# Altium schematic symbol library Misc1.SchLib: 11 symbols
Pins are listed as number, name and electrical type; pins without a type are passive.

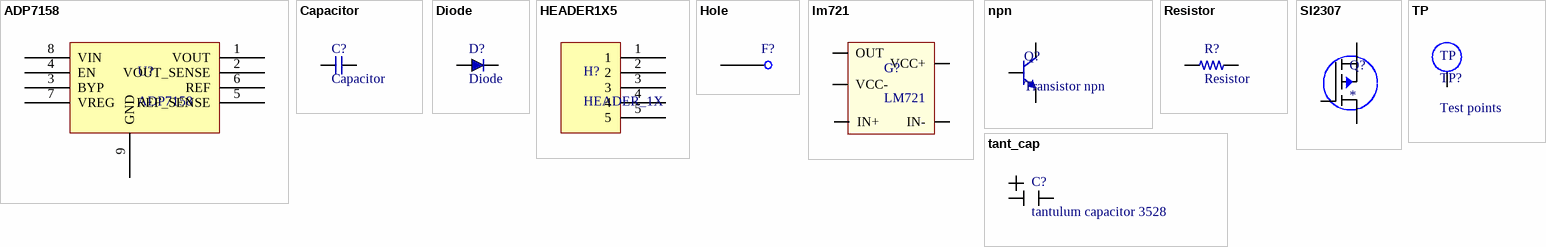
[diagram p0: symbols ADP7158 to TP]

## ADP7158
designator U?
3.3 V Regulator
pins: 1 VOUT, 2 VOUT_SENSE, 3 BYP, 4 EN, 5 REF_SENSE, 6 REF, 7 VREG, 8 VIN, 9 GND

## Capacitor
designator C?
pins: 1, 2

## Diode
designator D?
pins: 1 A "Anode", 2 K "Cathode"

## HEADER1X5
designator H?, comment HEADER_1X
footprint CONNECTOR
pins: 1, 2, 3, 4, 5

## Hole
designator F?  (value not drawn)
footprint HOLE
pins: 1

## lm721
designator G?, comment LM721
footprint lm721
pins: 1 OUT, 2 VCC-, 3 IN+, 4 IN-, 5 VCC+

## npn
designator Q?, comment Transistor npn
pins: 1 E "Emitter", 2 B "Base", 3 C "Collector"

## Resistor
designator R?
footprint RESISTOR_1608
pins: 1, 2

## SI2307
designator Q?
footprint SI2307
pins: 1 Gate, 2 Source, 3 Drain

## tant_cap
designator C?, comment tantulum capacitor 3528
footprint tan_cap
pins: 1, 2

## TP
designator TP?, comment Test points
footprint Test_point
pins: 1